# EAGLE library part APDS-9300 (library intelliDesk)
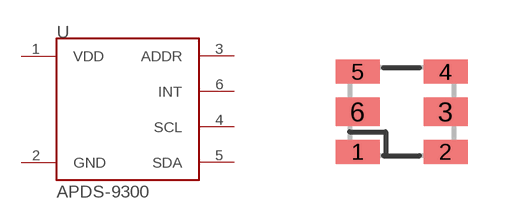
[diagram p3: symbol with the pads of CHIPLED; footprint CHIPLED]

Designator prefix -

## APDS-9300  [CHIPLED]
1  VDD
2  GND
3  ADDR
4  SCL
5  SDA
6  INT

## Footprint CHIPLED (pad centres in mm)
smd 1.1 x 0.6: 1 -1.1,-1; 2 1.1,-1; 4 1.1,1; 5 -1.1,1
smd 1.1 x 0.7: 3 1.1,0; 6 -1.1,0